# EAGLE library part USB-C (library bt_electromech)
USB-C Connector
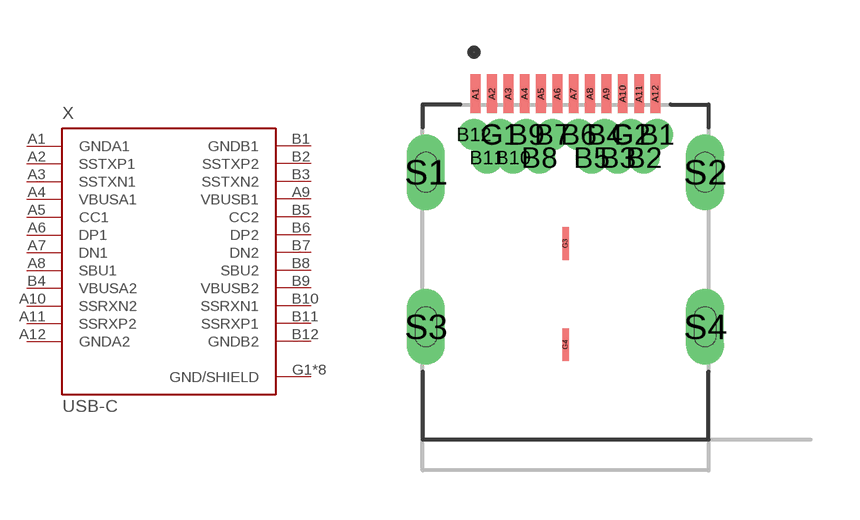
[diagram p5: symbol with the pads of USB-C; footprint USB-C]

Designator prefix X

## USB-C  [USB-C]
A1  GNDA1  pwr
A2  SSTXP1
A3  SSTXN1
A4  VBUSA1  pwr
A5  CC1
A6  DP1
A7  DN1
A8  SBU1
A9  VBUSB1  pwr
A10  SSRXN2
A11  SSRXP2
A12  GNDA2  pwr
B1  GNDB1  pwr
B2  SSTXP2
B3  SSTXN2
B4  VBUSA2  pwr
B5  CC2
B6  DP2
B7  DN2
B8  SBU2
B9  VBUSB2  pwr
B10  SSRXN1
B11  SSRXP1
B12  GNDB2  pwr
G1  GND/SHIELD  pwr
G2  GND/SHIELD  pwr
G3  GND/SHIELD  pwr
G4  GND/SHIELD  pwr
S1  GND/SHIELD  pwr
S2  GND/SHIELD  pwr
S3  GND/SHIELD  pwr
S4  GND/SHIELD  pwr

## Footprint USB-C (pad centres in mm)
USB-C Connector
smd 0.3 x 1.2: A1 -2.75,5.86; A2 -2.25,5.86; A3 -1.75,5.86; A4 -1.25,5.86; A5 -0.75,5.86; A6 -0.25,5.86; A7 0.25,5.86; A8 0.75,5.86; A9 1.25,5.86; A10 1.75,5.86; A11 2.25,5.86; A12 2.75,5.86
drill 0.45 pad 0.65: B1 2.8,4.61; B2 2.4,3.9; B3 1.6,3.9; B4 1.2,4.61; B5 0.8,3.9; B6 0.4,4.61; B7 -0.4,4.61; B8 -0.8,3.9; B9 -1.2,4.61; B10 -1.6,3.9; B11 -2.4,3.9; B12 -2.8,4.61; G1 -2,4.61; G2 2,4.61
smd 0.2 x 1: G3 0,1.28; G4 0,-1.82
drill 0.65 pad 1.05 long: S1 -4.27,3.46; S2 4.27,3.46; S3 -4.27,-1.27; S4 4.27,-1.27